# Altium integrated library BTVN.IntLib: 6 symbols
Pins are listed as number, name and electrical type; pins without a type are passive.

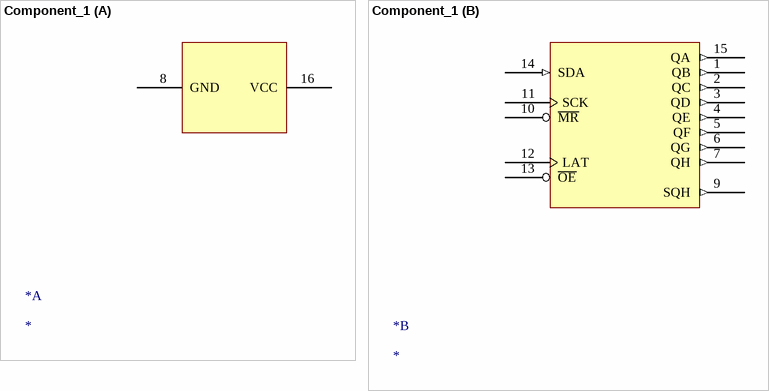
[diagram p0: symbol Component_1]

## Component_1
designator *
Manufacturer: Texas Instruments
footprint PCBComponent_1
part A pins: 8 GND, 16 VCC
part B pins: 1 QB (out), 2 QC (out), 3 QD (out), 4 QE (out), 5 QF (out), 6 QG (out), 7 QH (out), 9 SQH (out), 10 ~{MR}, 11 SCK, 12 LAT, 13 ~{OE}, 14 SDA (in), 15 QA (out)


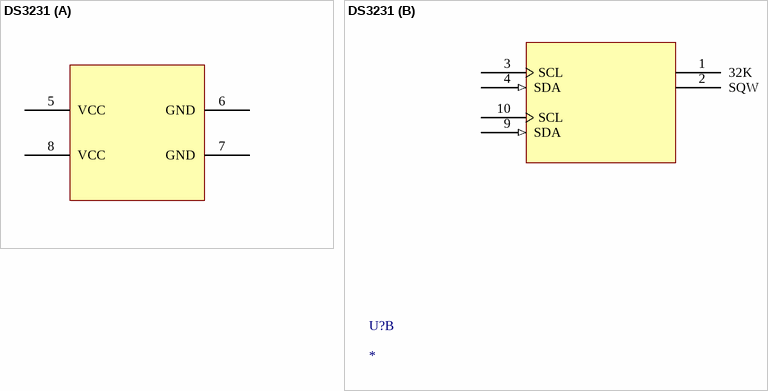
[diagram p1: symbol DS3231]

## DS3231
designator U?
Time Format: HH:MM:SS (12/24 hr); Date Format: YY-MM-DD-dd; Interface: I²C, 2-Wire Serial; Voltage - Supply: 2.3V ~ 5.5V; Current - Timekeeping (Max): 130µA ~ 200µA @ 3.63V ~ 5.5V; Package: Tape & Reel (TR); Type: Clock/Calendar; Features: Alarm, Leap Year, Square Wave Output; Operating Temperature: -40°C ~ 85°C; Mounting Type: Surface Mount; Package / Case: 16-SOIC (0.295", 7.50mm Width); Supplier Device Package: 16-SOIC
footprint PCBComponent_1
footprint PCBComponent_1
part A pins: 5 VCC, 6 GND, 7 GND, 8 VCC
part B pins: 1 32K, 2 SQW, 3 SCL, 4 SDA (in), 9 SDA (in), 10 SCL


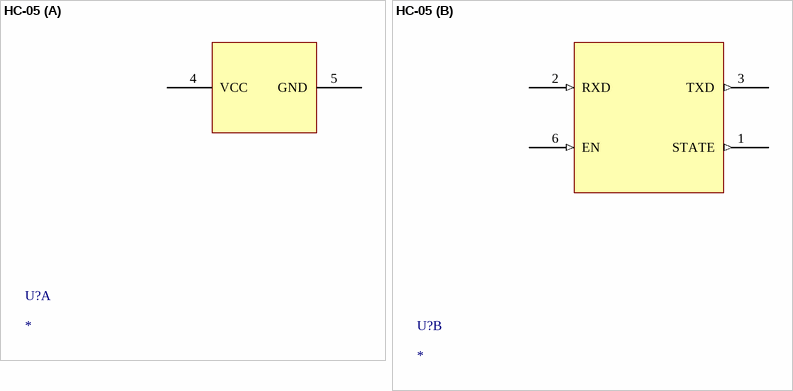
[diagram p2: symbol HC-05]

## HC-05
designator U?
Parameter 1: *
footprint PCBComponent_1
part A pins: 4 VCC, 5 GND
part B pins: 1 STATE (out), 2 RXD (in), 3 TXD (out), 6 EN (in)


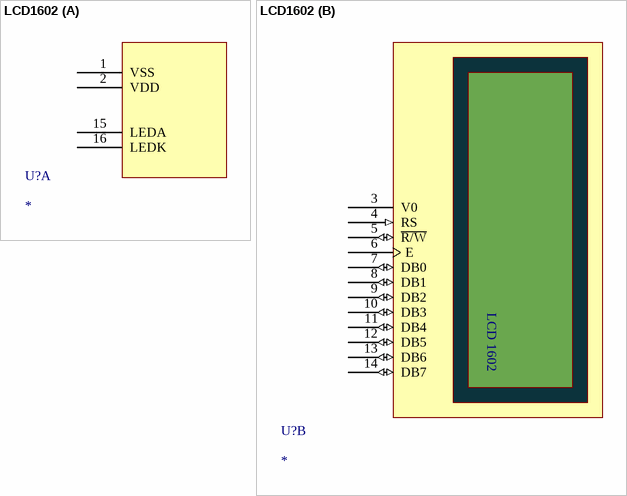
[diagram p3: symbol LCD1602]

## LCD1602
designator U?
Number of Characters: 32; Display Format: 16 x 2; Character Format: 5 x 8 Dots; Display Type: STN - Super-Twisted Nematic; Character Size: 5.15mm H x 2.90mm W; Outline L x W x H: 80.00mm x 36.00mm x 11.00mm; Viewing Area: 55.70mm L x 11.00mm W; Backlight: LED - Yellow/Green; Voltage - Supply: 4.5V ~ 5.5V; Dot Size: 0.55mm W x 0.65mm H; Controller Type: HD44780; Operating Temperature: -20°C ~ 70°C; Parameter 1: *
footprint PCBComponent_1
part A pins: 1 VSS, 2 VDD, 15 LEDA, 16 LEDK
part B pins: 3 V0, 4 RS (in), 5 ~{R/W} (io), 6 E, 7 DB0 (io), 8 DB1 (io), 9 DB2 (io), 10 DB3 (io), 11 DB4 (io), 12 DB5 (io), 13 DB6 (io), 14 DB7 (io)
part B text: LCD 1602


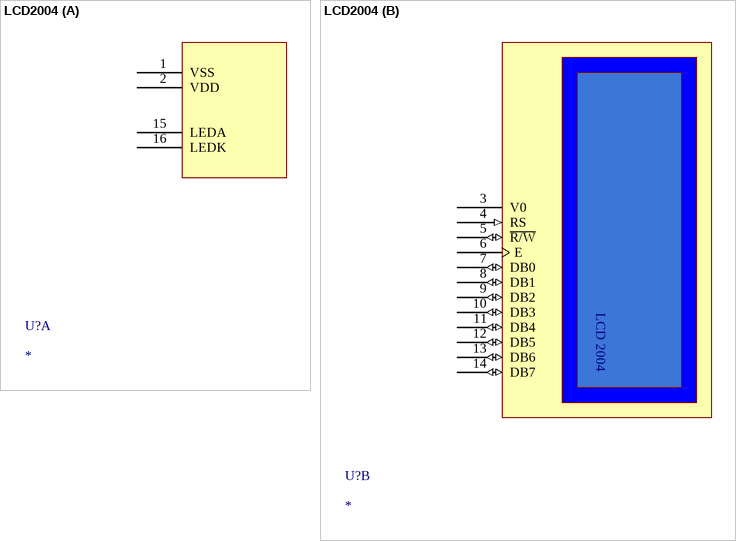
[diagram p4: symbol LCD2004]

## LCD2004
designator U?
Manufacturer: AZ Display; Display Format: 20 x 4; Character Format: 5 x 8 Dots; Display Type: STN - Super-Twisted Nematic, TN - Twisted Nematic; Display Mode: Transmissive; Character Size: 4.75mm H x 2.95mm W; Outline L x W x H: 98.00mm x 60.00mm x 14.00mm; Viewing Area: 76.00mm L x 25.20mm W; Backlight: LED; Voltage - Supply: 2.7V ~ 5.5V; Dot Size: 0.55mm W x 0.55mm H; Package: Box; Operating Temperature: -20°C ~ 70°C
footprint PCBComponent_1
part A pins: 1 VSS, 2 VDD, 15 LEDA, 16 LEDK
part B pins: 3 V0, 4 RS (in), 5 ~{R/W} (io), 6 E, 7 DB0 (io), 8 DB1 (io), 9 DB2 (io), 10 DB3 (io), 11 DB4 (io), 12 DB5 (io), 13 DB6 (io), 14 DB7 (io)
part B text: LCD 2004


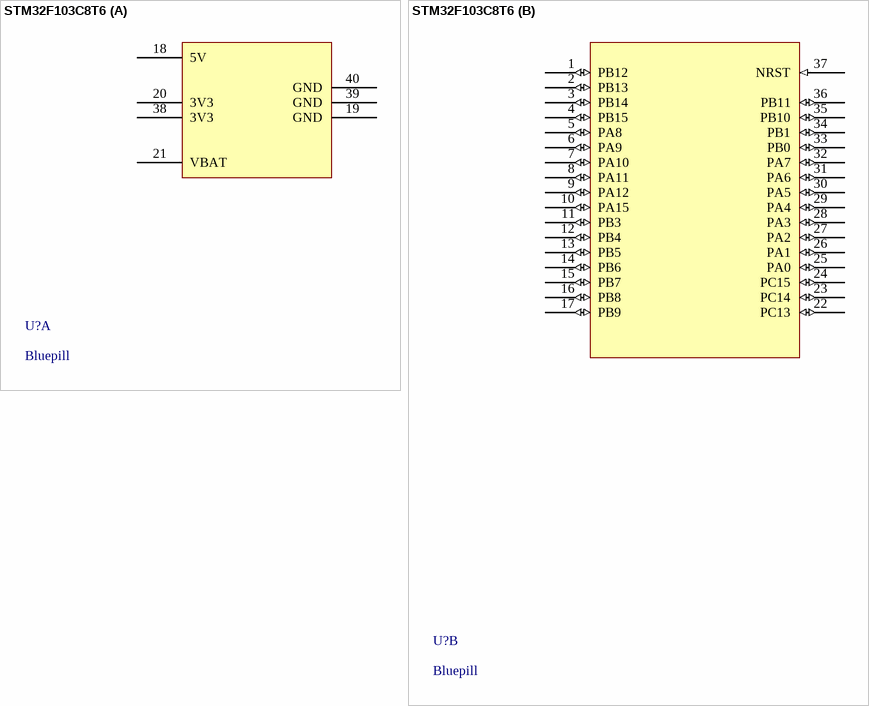
[diagram p5: symbol STM32F103C8T6]

## STM32F103C8T6
designator U?, comment Bluepill
STM32F103C8T6, mbed-Enabled Development Bluepill STM32F1 ARM® Cortex®-M3 MCU 32-Bit Embedded Evaluation Board; Manufacturer: STMicroelectronics; Packgae/Case: LQFP-48; Speed: 74MHz; Connectivity: CANbus, I²C, IrDA, LINbus, SPI, UART/USART, USB; Peripherals: DMA, Motor Control PWM, PDR, POR, PVD, PWM, Temp Sensor, WDT; Number of I/O: 37; Program Memory Size: 64KB; Program Memory Type: FLASH; RAM Size: 24KB; Voltage - Supply: 2V ~ 3.6V; Product Category: ARM Microcontrollers - MCU; Series: STM32F103C8T6; Mounting Style: SMD/SMT; Core Processor: ARM® Cortex®-M3; Core Size: 32-Bit; Operating Temperature: -40°C ~ 85°C; Mounting Type: Surface Mount
footprint PCBComponent_1
part A pins: 18 5V, 19 GND, 20 3V3, 21 VBAT, 38 3V3, 39 GND, 40 GND
part B pins: 1 PB12 (io), 2 PB13 (io), 3 PB14 (io), 4 PB15 (io), 5 PA8 (io), 6 PA9 (io), 7 PA10 (io), 8 PA11 (io), 9 PA12 (io), 10 PA15 (io), 11 PB3 (io), 12 PB4 (io), 13 PB5 (io), 14 PB6 (io), 15 PB7 (io), 16 PB8 (io), 17 PB9 (io), 22 PC13 (io), 23 PC14 (io), 24 PC15 (io), 25 PA0 (io), 26 PA1 (io), 27 PA2 (io), 28 PA3 (io), 29 PA4 (io), 30 PA5 (io), 31 PA6 (io), 32 PA7 (io), 33 PB0 (io), 34 PB1 (io), 35 PB10 (io), 36 PB11 (io), 37 NRST (in)